# EAGLE library part FH36W-15S-0.3SHW(50) (library con-hirose-fh36-series)
HIROSE FH36 SERIES CATALOG <https://www.hirose.com/en/product/document?clcode=CL0580-1620-0-50&productname=FH36W-39S-0.3SHW(50)&series=FH36&documenttype=Catalog&lang=en&documentid=D49359_en> HIROSE FH36 PRODUCT PAGE <https://www.hirose.com/product/p/CL0580-1620-0-50#documentSection>
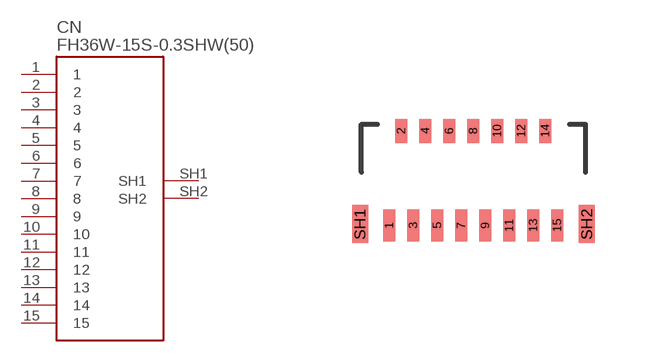
[diagram p19: symbol with the pads of FH36(W)-15; footprint FH36(W)-15]

Designator prefix CN

## FH36W-15S-0.3SHW(50)  [FH36(W)-15]
1  1
2  2
3  3
4  4
5  5
6  6
7  7
8  8
9  9
10  10
11  11
12  12
13  13
14  14
15  15
SH1  SH1
SH2  SH2

## Footprint FH36(W)-15 (pad centres in mm)
smd 0.3 x 0.8: 1 -2.1,-1.235; 3 -1.5,-1.235; 5 -0.9,-1.235; 7 -0.3,-1.235; 9 0.3,-1.235; 11 0.9,-1.235; 13 1.5,-1.235; 15 2.1,-1.235
smd 0.3 x 0.6: 2 -1.8,1.135; 4 -1.2,1.135; 6 -0.6,1.135; 8 0,1.135; 10 0.6,1.135; 12 1.2,1.135; 14 1.8,1.135
smd 0.4 x 0.95: SH1 -2.835,-1.2; SH2 2.835,-1.2